# Altium footprint library Embedded.PcbLib: 34 footprints (part 1 of 3)
Each footprint in its own frame and in the unit in brackets; x right, y up, seen from the top. Pads: shape width x height; smd on the part's side, far side on the other; paste and mask are expansions set on the pad; w line width, h text height; cw(c..) or ccw(c..) is an arc to the next point about the centre after c.
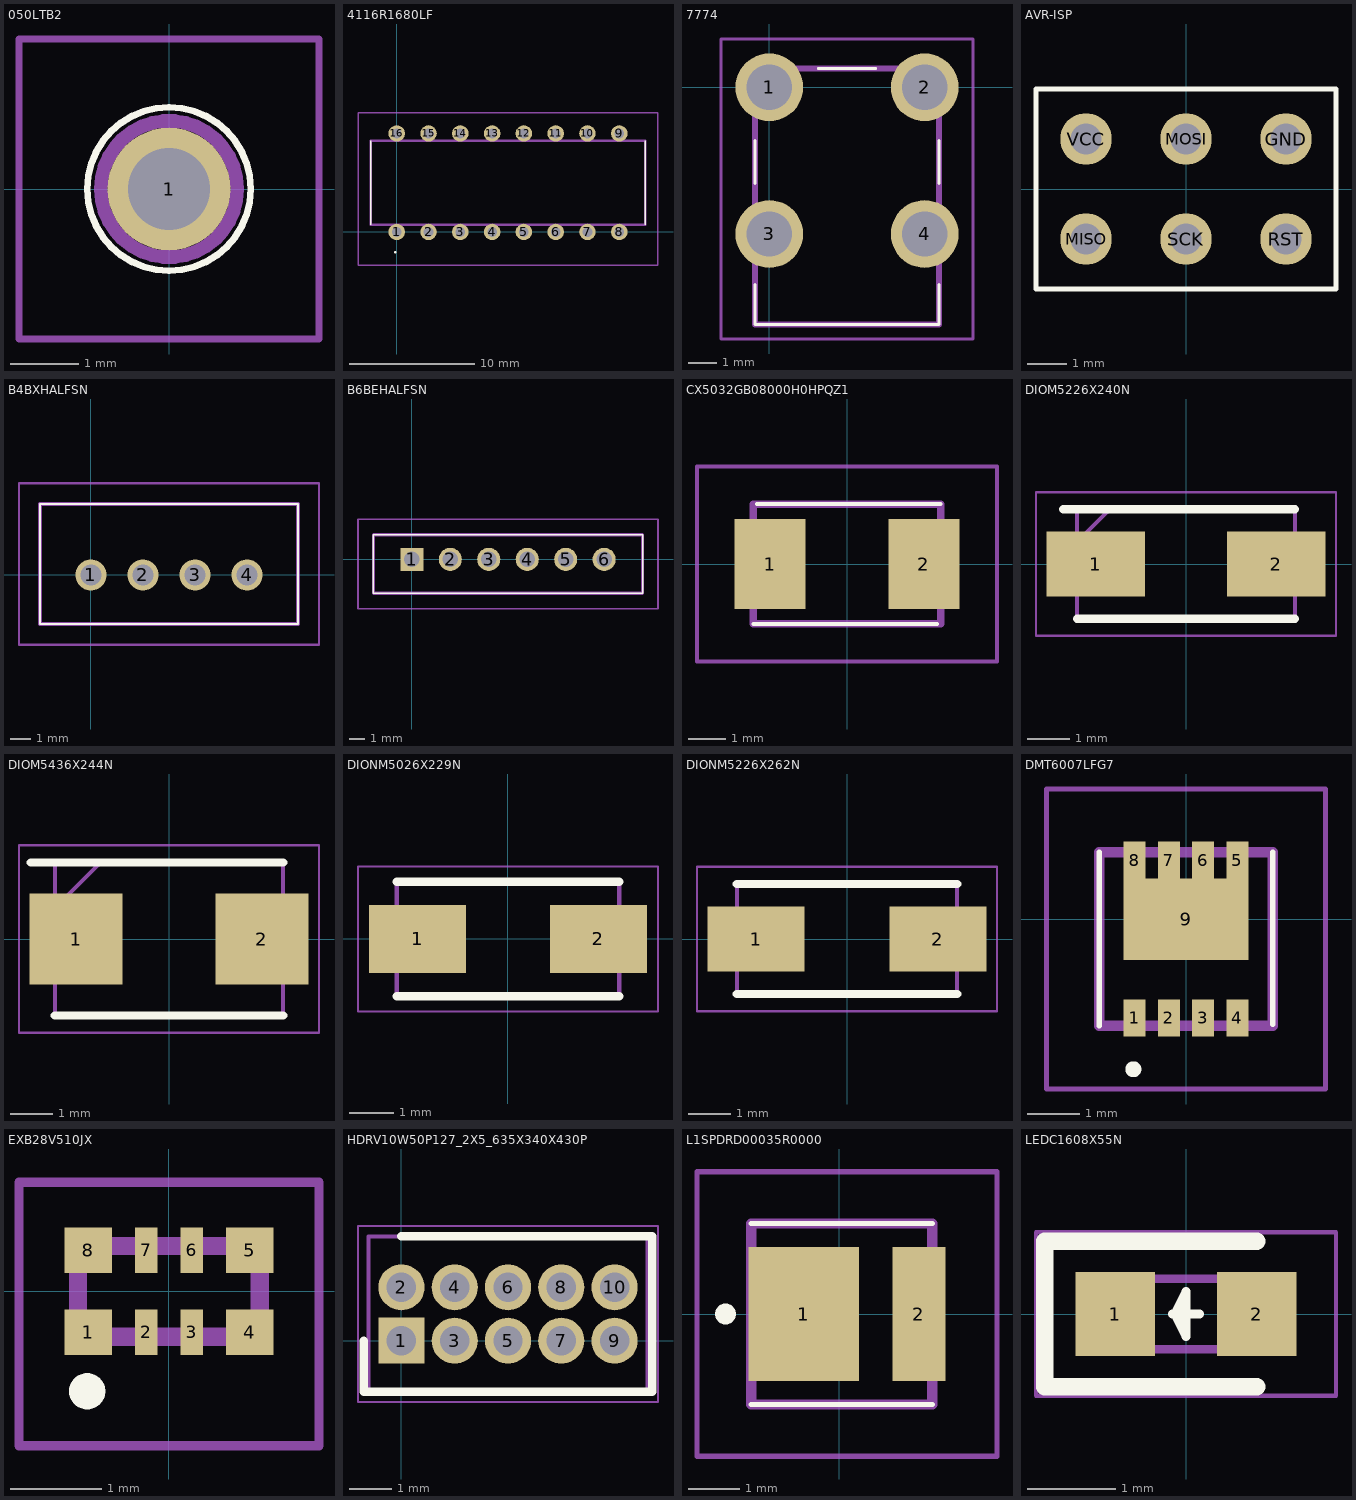
[diagram p0: the footprints below, top view; thin cyan lines are the x and y axes]

## 050LTB2 [mm]
pads (1):
  round 1.8 hole 1.2: 1(0,0)
Top Overlay:
  lines w0.1: 0,-1.2 cw(c0,0) 0,1.2 cw(c0,0) 0,-1.2
Mechanical 13:
  lines w0.2: -1,0 ccw(c0,0) 1,0 ccw(c0,0) -1,0
Mechanical 15:
  lines w0.1: -2.2,-2.2 2.2,-2.2 2.2,2.2 -2.2,2.2 -2.2,-2.2
3D body "050_LT_B2.stp": height 4.6, standoff -5, extent -1,-1 1,1

## 4116R1680LF [mm]
pads (16):
  round 1.32 hole 0.77: 1(0,0) 2(2.54,0) 3(5.08,0) 4(7.62,0) 5(10.16,0) 6(12.7,0) 7(15.24,0) 8(17.78,0) 9(17.78,7.87) 10(15.24,7.87) 11(12.7,7.87) 12(10.16,7.87) 13(7.62,7.87) 14(5.08,7.87) 15(2.54,7.87) 16(0,7.87)
Top Overlay:
  lines w0.1: -2.095,0.58 -2.095,7.29 ; 19.875,0.58 19.875,7.29 ; -0.11,-1.665 ccw(c-0.11,-1.615) -0.11,-1.565 ccw(c-0.11,-1.615) -0.11,-1.665
Mechanical 13:
  lines w0.2: -2.095,0.58 -2.095,7.29 19.875,7.29 19.875,0.58 -2.095,0.58
Mechanical 15:
  lines w0.1: -3.095,-2.665 -3.095,9.53 20.875,9.53 20.875,-2.665 -3.095,-2.665
3D body "4116R-1-680LF.stp": height 4.79, standoff -5, extent -2.095,-0.284 19.875,8.154

## 7774 [mm]
pads (4):
  round 2.355 hole 1.57: 1(0,0) 2(5.4,0) 3(0,-5.1) 4(5.4,-5.1)
Top Overlay:
  lines w0.1: -0.5,-6.85 -0.5,-8.25 5.9,-8.25 5.9,-6.85 ; -0.5,-3.35 -0.5,-1.85 ; 1.7,0.65 3.7,0.65 ; 5.9,-3.35 5.9,-1.85
Mechanical 13:
  lines w0.2: -0.5,-8.25 -0.5,0.65 5.9,0.65 5.9,-8.25 -0.5,-8.25
Mechanical 15:
  lines w0.1: -1.678,-8.75 -1.678,1.678 7.078,1.678 7.078,-8.75 -1.678,-8.75
3D body "7774.stp": height 4.7, standoff -5, extent -0.68,-8.25 6.085,0.684

## AVR-ISP [mm]
pads (6):
  round 1.308 hole 0.8: GND(2.54,1.27) MISO(-2.54,-1.27) MOSI(0,1.27) RST(2.54,-1.27) SCK(0,-1.27) VCC(-2.54,1.27)
Top Overlay:
  lines w0.127: -3.81,-2.54 -3.81,2.54 3.81,2.54 3.81,-2.54 -3.81,-2.54

## B4BXHALFSN [mm]
pads (4):
  round 1.5 hole 1: 1(0,0) 2(2.5,0) 3(5,0) 4(7.5,0)
Top Overlay:
  lines w0.1: -2.45,-2.35 -2.45,3.4 9.95,3.4 9.95,-2.35 -2.45,-2.35
Mechanical 13:
  lines w0.2: -2.45,-2.35 -2.45,3.4 9.95,3.4 9.95,-2.35 -2.45,-2.35
Mechanical 15:
  lines w0.1: -3.45,-3.35 -3.45,4.4 10.95,4.4 10.95,-3.35 -3.45,-3.35
3D body "B4B-XH-A_LF__SN_.stp": height 7.1, standoff -5, extent -2.45,-2.35 9.95,3.4

## B6BEHALFSN [mm]
pads (6):
  rect 1.5x1.5 hole 1: 1(0,0)
  round 1.5 hole 1: 2(2.5,0) 3(5,0) 4(7.5,0) 5(10,0) 6(12.5,0)
Top Overlay:
  lines w0.1: -2.5,-2.2 -2.5,1.6 15,1.6 15,-2.2 -2.5,-2.2
Mechanical 13:
  lines w0.2: -2.5,-2.2 -2.5,1.6 15,1.6 15,-2.2 -2.5,-2.2
Mechanical 15:
  lines w0.1: -3.5,-3.2 -3.5,2.6 16,2.6 16,-3.2 -3.5,-3.2
3D body "B6B-EH-A_LF__SN_.stp": height 6.1, standoff -5, extent -2.5,-2.2 15,1.6

## CX5032GB08000H0HPQZ1 [mm]
pads (2):
  rect 1.9x2.4 smd: 1(-2.05,0) 2(2.05,0)
Top Overlay:
  lines w0.1: -2.5,-1.6 2.4,-1.6 ; -2.4,1.6 2.5,1.6
Mechanical 13:
  lines w0.2: -2.5,-1.6 2.5,-1.6 2.5,1.6 -2.5,1.6 -2.5,-1.6
Mechanical 15:
  lines w0.1: -4,-2.6 4,-2.6 4,2.6 -4,2.6 -4,-2.6
3D body "CX5032GB08000H0HPQZ1.stp": height 1.2, standoff 0, extent -2.81,-1.6 2.81,1.6

## DIOM5226X240N [mm]
pads (2):
  rect 2.35x1.55 smd: 1(-2.15,0) 2(2.15,0)
Top Overlay:
  lines w0.2: -2.925,1.302 2.598,1.302 ; -2.598,-1.302 2.598,-1.302
Mechanical 13:
  lines w0.1: -2.598,0.528 -1.822,1.302 ; -2.598,-1.302 -2.598,1.302 2.598,1.302 2.598,-1.302 -2.598,-1.302
Mechanical 15:
  lines w0.05: -3.575,-1.71 -3.575,1.71 3.575,1.71 3.575,-1.71 -3.575,-1.71
3D body "B360A-13-F.stp": height 2.4, standoff 0, extent -2.598,-1.302 2.598,1.302

## DIOM5436X244N [mm]
pads (2):
  rect 2.2x2.15 smd: 1(-2.2,0) 2(2.2,0)
Top Overlay:
  lines w0.2: -3.275,1.81 2.7,1.81 ; -2.7,-1.81 2.7,-1.81
Mechanical 13:
  lines w0.1: -2.7,0.735 -1.625,1.81 ; -2.7,-1.81 -2.7,1.81 2.7,1.81 2.7,-1.81 -2.7,-1.81
Mechanical 15:
  lines w0.05: -3.55,-2.22 -3.55,2.22 3.55,2.22 3.55,-2.22 -3.55,-2.22
3D body "SMBJ5.0A.stp": height 2.44, standoff 0, extent -2.7,-1.81 2.7,1.81

## DIONM5026X229N [mm]
pads (2):
  rect 2.2x1.55 smd: 1(-2.05,0) 2(2.05,0)
Top Overlay:
  lines w0.2: -2.52,-1.298 2.52,-1.298 ; -2.52,1.298 2.52,1.298
Mechanical 13:
  lines w0.1: -2.52,-1.298 -2.52,1.298 2.52,1.298 2.52,-1.298 -2.52,-1.298
Mechanical 15:
  lines w0.05: -3.4,-1.645 -3.4,1.645 3.4,1.645 3.4,-1.645 -3.4,-1.645
3D body "SMAJ26CA.stp": height 2.29, standoff 0, extent -2.52,-1.298 2.52,1.298

## DIONM5226X262N [mm]
pads (2):
  rect 2.3x1.55 smd: 1(-2.15,0) 2(2.15,0)
Top Overlay:
  lines w0.2: -2.605,-1.302 2.605,-1.302 ; -2.605,1.302 2.605,1.302
Mechanical 13:
  lines w0.1: -2.605,-1.302 2.605,-1.302 2.605,1.302 -2.605,1.302 -2.605,-1.302
Mechanical 15:
  lines w0.05: -3.55,-1.71 3.55,-1.71 3.55,1.71 -3.55,1.71 -3.55,-1.71
3D body "SMAJ28CA.stp": height 2.62, standoff 0, extent -2.605,-1.302 2.605,1.302

## DMT6007LFG7 [mm]
pads (9):
  rect 0.42x0.7 smd: 1(-0.975,-1.875) 2(-0.325,-1.875) 3(0.325,-1.875) 4(0.975,-1.875) 5(0.975,1.125) 6(0.325,1.125) 7(-0.325,1.125) 8(-0.975,1.125)
  rect 2.37x1.55 smd: 9(0,0)
Top Overlay:
  lines w0.1: -1.65,-2.025 -1.65,1.275 ; 1.65,-2 1.65,1.275
  lines w0.2: -1,-2.9 ccw(c-1,-2.85) -1,-2.8 ; -1,-2.9 cw(c-1,-2.85) -1,-2.8 ; -1,-2.9 ccw(c-1,-2.85) -1,-2.8
Mechanical 13:
  lines w0.2: -1.65,-2.025 -1.65,1.275 1.65,1.275 1.65,-2.025 -1.65,-2.025
Mechanical 15:
  lines w0.1: -2.65,-3.225 -2.65,2.475 2.65,2.475 2.65,-3.225 -2.65,-3.225
3D body "DMT6007LFG-7.stp": height 0.95, standoff 0, extent -1.65,-2.183 1.65,1.433

## EXB28V510JX [mm]
pads (8):
  rect 0.525x0.5 smd: 1(-0.888,-0.45) 4(0.888,-0.45) 5(0.888,0.45) 8(-0.888,0.45)
  rect 0.25x0.5 smd: 2(-0.25,-0.45) 3(0.25,-0.45) 6(0.25,0.45) 7(-0.25,0.45)
Top Overlay:
  lines w0.2: -1,-1.1 ccw(c-0.9,-1.1) -0.8,-1.1 ccw(c-0.9,-1.1) -1,-1.1
Mechanical 13:
  lines w0.2: -1,-0.5 -1,0.5 1,0.5 1,-0.5 -1,-0.5
Mechanical 15:
  lines w0.1: -1.65,-1.7 -1.65,1.2 1.651,1.2 1.651,-1.7 -1.65,-1.7

## HDRV10W50P127_2X5_635X340X430P [mm]
pads (10):
  rect 1.1x1.1 hole 0.7: 1(0,0)
  round 1.1 hole 0.7: 2(0,1.27) 3(1.27,0) 4(1.27,1.27) 5(2.54,0) 6(2.54,1.27) 7(3.81,0) 8(3.81,1.27) 9(5.08,0) 10(5.08,1.27)
Top Overlay:
  lines w0.2: -0.9,0 -0.9,-1.215 5.98,-1.215 5.98,2.485 0,2.485
Mechanical 13:
  lines w0.1: -0.785,-1.215 -0.785,2.485 5.865,2.485 5.865,-1.215 -0.785,-1.215
Mechanical 15:
  lines w0.05: -1.035,-1.465 -1.035,2.735 6.115,2.735 6.115,-1.465 -1.035,-1.465
3D body "GRPB052VWVN-RC.stp": height 4.3, standoff -2.6, extent -0.635,-1.065 5.715,2.335

## L1SPDRD00035R0000 [mm]
pads (2):
  rect 2.13x2.6 smd: 1(-0.685,0)
  rect 1.02x2.6 smd: 2(1.54,0)
Top Overlay:
  lines w0.1: -1.7,-1.75 1.8,-1.75 ; -1.7,1.75 1.8,1.75
  lines w0.2: -2.2,-0.1 cw(c-2.2,0) -2.2,0.1 cw(c-2.2,0) -2.2,-0.1
Mechanical 13:
  lines w0.2: -1.7,-1.75 1.8,-1.75 1.8,1.75 -1.7,1.75 -1.7,-1.75
Mechanical 15:
  lines w0.1: -2.75,-2.75 3.05,-2.75 3.05,2.75 -2.75,2.75 -2.75,-2.75
3D body "L1SP-DRD00035R0000.stp": height 0.9, standoff 0, extent -1.7,-1.75 1.8,1.75

## LEDC1608X55N [mm]
pads (2):
  rect 0.9x0.95 smd: 1(-0.8,0) 2(0.8,0)
Top Overlay:
  lines w0.102: -0.152,0 -0.127,0 ; 0.152,0 -0.127,0 ; -0.127,0 0,-0.254 ; -0.127,0 0,0.254 0,-0.254 ; -0.127,0 0,-0.254
  lines w0.2: 0.8,-0.825 -1.6,-0.825 -1.6,0.825 0.8,0.825
Mechanical 13:
  lines w0.1: -0.8,0.133 -0.533,0.4 ; -0.8,-0.4 0.8,-0.4 0.8,0.4 -0.8,0.4 -0.8,-0.4
Mechanical 15:
  lines w0.05: -1.7,-0.925 1.7,-0.925 1.7,0.925 -1.7,0.925 -1.7,-0.925